# Altium schematic symbol library Schlib1.SchLib: 10 symbols
Pins are listed as number, name and electrical type; pins without a type are passive.

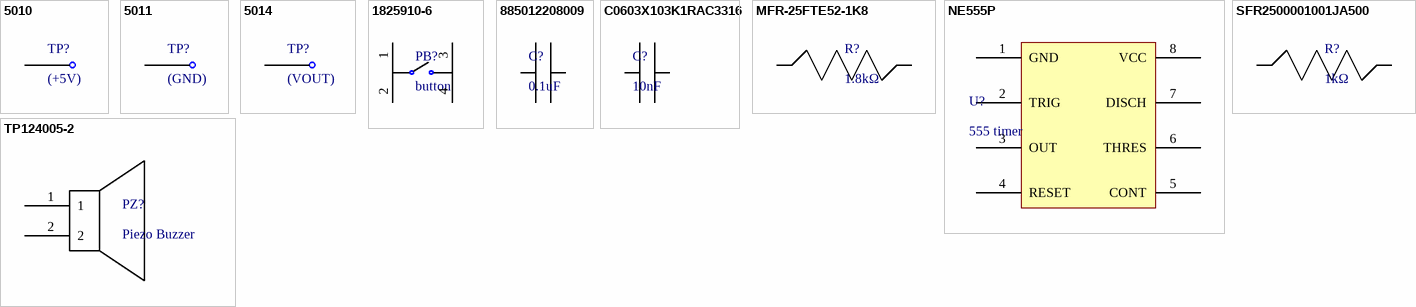
[diagram p0: symbols 5010 to TP124005-2]

## 5010
designator TP?, comment (+5V)
Polyurethane Multi-Purpose Cream Adhesive, 10.3 oz Cartridge; Manufacturer: Keystone Electronics; Manufacturer Part Number: 5010; Body Material: Bronze,PBT; Plating: Silver; Number of Ports: 1; Inside Diameter: 1.78mm; Hole Diameter: 1.6mm; Supplier 1: Digi-Key; RoHS: Yes; Category: Connectors; Stock 1: 546313; Pricing 1: 1=0.42000, 25=0.34080, 100=0.30150, 250=0.28304, 500=0.25230, 1000=0.19884, 2500=0.18180, 5000=0.17044 (USD); Mount: Through Hole,PCB; Contact Material: Bronze; Contact Plating: Silver,Tin; Color: Red; Material: Nylon,Bronze,Silver; Housing Color: Red; Insulation Material: Nylon; Packaging: Bulk; Series: THM; Package Quantity: 100; Termination: Through Hole; Orientation: Straight; Length: 11.3mm; Height: 0.445inch; Lead Free: Lead Free; Flammability Rating: UL94 V-0; RoHS Compliant: Yes; REACH SVHC: No SVHC; ComponentLink1URL: https://datasheet.ciiva.com/11744/0900766b8009b7c7-11744920.pdf?src-supplier=RSComponents; ComponentLink1Description: https://datasheet.ciiva.com/11744/0900766b8009b7c7-11744920.pdf?src-supplier=RSComponents; ComponentLink2URL: https://datasheet.ciiva.com/16506/m60-2p60-16506972.pdf?src-supplier=Future+Electronics; ComponentLink2Description: https://datasheet.ciiva.com/16506/m60-2p60-16506972.pdf?src-supplier=Future+Electronics; ComponentLink3URL: https://datasheet.ciiva.com/16883/70182825-16883886.pdf?src-supplier=Allied+Electronics; ComponentLink3Description: https://datasheet.ciiva.com/16883/70182825-16883886.pdf?src-supplier=Allied+Electronics; ComponentLink4URL: https://datasheet.ciiva.com/1454/1703983-1454833.pdf?src-supplier=Element14; ComponentLink4Description: https://datasheet.ciiva.com/1454/1703983-1454833.pdf?src-supplier=Element14; ComponentLink5URL: https://datasheet.ciiva.com/22631/1703983-22631113.pdf?src-supplier=Element14; ComponentLink5Description: https://datasheet.ciiva.com/22631/1703983-22631113.pdf?src-supplier=Element14; ComponentLink6URL: https://datasheet.ciiva.com/2917/5010-2917626.pdf?src-supplier=Digi-Key; ComponentLink6Description: https://datasheet.ciiva.com/2917/5010-2917626.pdf?src-supplier=Digi-Key; Supplier Part Number 1: 36-5010-ND
footprint TEST_POINT
pins: 1

## 5011
designator TP?, comment (GND)
Test Point MultiPurpose THM H .445 Nylon 46 Insulated Blk PhosBronze/Silver; Manufacturer: Keystone Electronics; Manufacturer Part Number: 5011; Body Material: PBT; Gender: Female; Number of Ports: 1; Inside Diameter: 1.78mm; Hole Diameter: 1.6mm; Supplier 1: RSComponents; RoHS: Yes; Category: Connectors; Stock 1: 100; Pricing 1: 100=0.30800, 500=0.29900, 1000=0.29100, 4000=0.28400 (GBP); Mount: PCB,Through Hole; Contact Material: Bronze; Contact Plating: Silver,Tin; Color: Black; Material: Nylon,Bronze,Silver; Housing Color: Black; Packaging: Bulk; Package Quantity: 100; Orientation: Straight; Series: THM; Length: 11.3mm; Lead Free: Lead Free; REACH SVHC: No SVHC; RoHS Compliant: Yes; Flammability Rating: UL94 V-0; ComponentLink1URL: https://datasheet.ciiva.com/11744/0900766b8009b7c7-11744935.pdf?src-supplier=RSComponents; ComponentLink1Description: https://datasheet.ciiva.com/11744/0900766b8009b7c7-11744935.pdf?src-supplier=RSComponents; ComponentLink2URL: https://datasheet.ciiva.com/1454/1718230-1454834.pdf?src-supplier=Element14; ComponentLink2Description: https://datasheet.ciiva.com/1454/1718230-1454834.pdf?src-supplier=Element14; ComponentLink3URL: https://datasheet.ciiva.com/16351/m60-2p60-16351093.pdf?src-supplier=Future+Electronics; ComponentLink3Description: https://datasheet.ciiva.com/16351/m60-2p60-16351093.pdf?src-supplier=Future+Electronics; ComponentLink4URL: https://datasheet.ciiva.com/2917/5011-2917635.pdf?src-supplier=Digi-Key; ComponentLink4Description: https://datasheet.ciiva.com/2917/5011-2917635.pdf?src-supplier=Digi-Key; ComponentLink5URL: https://datasheet.ciiva.com/46412/1703983-46412138.pdf?src-supplier=Element14; ComponentLink5Description: https://datasheet.ciiva.com/46412/1703983-46412138.pdf?src-supplier=Element14; Supplier Part Number 1: 2042652
footprint TEST_POINT
pins: 1

## 5014
designator TP?, comment (VOUT)
Test Point MultiPurpose THM H .445 Nylon 46 Insulated Yel PhosBronze/Silver; Manufacturer: Keystone Electronics; Manufacturer Part Number: 5014; Body Material: PBT; Inside Diameter: 1.78mm; Supplier 1: Newark; RoHS: Yes; Category: Connectors; Stock 1: 46110; Pricing 1: 1=0.26400, 10=0.25400, 100=0.24000, 500=0.17900, 1000=0.15400, 2500=0.13300, 10000=0.11100 (USD); Mount: Through Hole,PCB; Contact Material: Bronze; Contact Plating: Silver,Tin; Color: Yellow; Material: Nylon,Bronze,Silver; Packaging: Bulk; Termination: Through Hole; Series: THM; Package Quantity: 100; Length: 11.3mm; Height: 0.445inch; Lead Free: Lead Free; REACH SVHC: No SVHC; RoHS Compliant: Yes; Flammability Rating: UL94 V-0; ComponentLink1URL: https://datasheet.ciiva.com/2917/5014-2917636.pdf?src-supplier=Digi-Key; ComponentLink1Description: https://datasheet.ciiva.com/2917/5014-2917636.pdf?src-supplier=Digi-Key; ComponentLink2URL: https://datasheet.ciiva.com/16297/m60-2p60-16297225.pdf?src-supplier=Future+Electronics; ComponentLink2Description: https://datasheet.ciiva.com/16297/m60-2p60-16297225.pdf?src-supplier=Future+Electronics; ComponentLink3URL: https://datasheet.ciiva.com/22631/1703983-22631119.pdf?src-supplier=Element14; ComponentLink3Description: https://datasheet.ciiva.com/22631/1703983-22631119.pdf?src-supplier=Element14; ComponentLink4URL: https://datasheet.ciiva.com/16884/70182825-16884159.pdf?src-supplier=Allied+Electronics; ComponentLink4Description: https://datasheet.ciiva.com/16884/70182825-16884159.pdf?src-supplier=Allied+Electronics; Supplier Part Number 1: 62W5146
footprint TEST_POINT
pins: 1

## 1825910-6
designator PB?, comment button
Switch Tactile OFF (ON) SPST Round Button PC Pins 0.05A 24VDC 1.57N Thru-Hole Loose; Manufacturer: TE Connectivity Alcoswitch; Manufacturer Part Number: 1825910-6; Mechanical Life: 100000Cycles; Actuator Material: PBT; Actuator Color: Black; Max Current Rating: 50mA; Operating Force: 160gf; Max Voltage Rating (DC): 24V; Contact Resistance: 100mR; Illumination Type: Non-Illuminated,Illuminated; Switch Travel: 0.25mm; Switch Function: Off-Mom; Actuator Type: Standard; Actuator Length: 0.055inch; Supplier 1: Arrow Electronics; RoHS: Yes; Category: Pushbutton Switches; Stock 1: 107859; Pricing 1: 1=0.10270, 10=0.09590, 25=0.09390, 100=0.08150, 250=0.08070, 500=0.07420, 1000=0.06350, 2500=0.06120, 5000=0.05680 (USD); Mount: Through Hole; Contact Material: Copper Alloy; Contact Plating: Silver; Min Operating Temperature: -35°C; Max Operating Temperature: 85°C; Package Quantity: 750; Packaging: Loose Piece; Throw Configuration: SPST; Termination: PC Pins; Electrical Life: 100000Cycles; Orientation: Straight; Contact Current Rating: 50mA; Type: Switch; Series: FSMJ; Length: 5.99mm; RoHS Compliant: Yes; REACH SVHC: Unknown; ELV: Compliant; Lead Free: Lead Free; ComponentLink1URL: https://datasheet.ciiva.com/30199/1825910-6rqpn1825910-6-30199520.pdf?src-supplier=Onlinecomponents.com; ComponentLink1Description: https://datasheet.ciiva.com/30199/1825910-6rqpn1825910-6-30199520.pdf?src-supplier=Onlinecomponents.com; ComponentLink2URL: https://datasheet.ciiva.com/15184/getdatasheetpartid-395915-15184509.pdf?src-supplier=Verical; ComponentLink2Description: https://datasheet.ciiva.com/15184/getdatasheetpartid-395915-15184509.pdf?src-supplier=Verical; Supplier Part Number 1: 1825910-6
footprint button2
pins: 1, 2, 3, 4

## 885012208009
designator C?, comment 0.1uF
Cap, 0.1ΜF, 10V, 10%, X7R, 1206; Manufacturer: Wurth Electronics; Manufacturer Part Number: 885012208009; Capacitance: 100nF; Supplier 1: Digi-Key; RoHS: Yes; Category: Ceramic Capacitors; Stock 1: 5980; Pricing 1: 1=0.12000, 10=0.10600, 100=0.09500, 500=0.08300 (USD); Mount: Surface Mount; Case/Package: 1206; Case Code (Metric): 3216; Case Code (Imperial): 1206; Min Operating Temperature: -55°C; Max Operating Temperature: 125°C; Packaging: Tape and Reel; Voltage Rating: 10V; Tolerance: 10%; Length: 0.126inch; Width: 0.063inch; Thickness: 0.035inch; RoHS Compliant: Yes; ComponentLink1URL: http://www.farnell.com/datasheets/2031891.pdf?src-supplier=Farnell; ComponentLink1Description: http://www.farnell.com/datasheets/2031891.pdf?src-supplier=Farnell; ComponentLink2URL: http://katalog.we-online.de/pbs/datasheet/885012208009.pdf?src-supplier=Digi-Key; ComponentLink2Description: http://katalog.we-online.de/pbs/datasheet/885012208009.pdf?src-supplier=Digi-Key; ComponentLink3URL: https://katalog.we-online.de/pbs/datasheet/885012208009.pdf?src-supplier=Digi-Key; ComponentLink3Description: https://katalog.we-online.de/pbs/datasheet/885012208009.pdf?src-supplier=Digi-Key; Supplier Part Number 1: 732-8086-1-ND
footprint Surface Capacitor
footprint Capacitor
pins: 1, 2

## C0603X103K1RAC3316
designator C?, comment 10nF
Cap Ceramic 0.01uF 100V X7R 10% SMD 0603 125°C Paper T/R; Manufacturer: KEMET; Manufacturer Part Number: C0603X103K1RAC3316; Supplier 1: RSComponents; RoHS: Yes; Category: Ceramic Capacitors; Stock 1: 200; Pricing 1: 4000=0.07200, 16000=0.07100 (GBP); Case Code (Metric): 1608; Case Code (Imperial): 0603; Min Operating Temperature: -55°C; Max Operating Temperature: 125°C; Capacitance: 10nF; Voltage Rating: 100V; Dielectric: X7R; Packaging: Cut Tape; Tolerance: 10%; Voltage Rating (DC): 100V; REACH SVHC: No SVHC; RoHS Compliant: Yes; ComponentLink1URL: http://www.farnell.com/datasheets/2821142.pdf?src-supplier=Farnell; ComponentLink1Description: http://www.farnell.com/datasheets/2821142.pdf?src-supplier=Farnell; ComponentLink2URL: http://www.farnell.com/datasheets/2163236.pdf?src-supplier=Element14; ComponentLink2Description: http://www.farnell.com/datasheets/2163236.pdf?src-supplier=Element14; Supplier Part Number 1: 1881957
footprint Capacitor
pins: 1, 2

## MFR-25FTE52-1K8
designator R?, comment 1.8kΩ
General Type Metal Film Resistor 1.8kOhm 1/4W 1% Axial Ammo Pack; Manufacturer: Yageo; Manufacturer Part Number: MFR-25FTE52-1K8; Resistance: 1.8kR; Voltage Rating: 250V; Power Rating: 250mW; Supplier 1: RSComponents; Category: Resistors; Stock 1: 5000; Pricing 1: 5000=0.00800 (GBP); Mount: Through Hole; Case/Package: Conformal; Min Operating Temperature: -55°C; Max Operating Temperature: 155°C; Tolerance: 1%; Termination: Axial; Resistor Type: Metal Film; Construction: Cylindrical; Length: 6.3mm; Military Standard: Not; ComponentLink1URL: http://www.mouser.com/ds/2/447/Yageo%20LR_MFR_2013-467719.pdf?src-supplier=Mouser; ComponentLink1Description: http://www.mouser.com/ds/2/447/Yageo%20LR_MFR_2013-467719.pdf?src-supplier=Mouser; ComponentLink2URL: http://www.yageo.com/NewPortal/yageodocoutput?fileName=/pdf/throughhole/Yageo_LR_MFR_2013.pdf&src-supplier=Digi-Key; ComponentLink2Description: http://www.yageo.com/NewPortal/yageodocoutput?fileName=/pdf/throughhole/Yageo_LR_MFR_2013.pdf&src-supplier=Digi-Key; ComponentLink3URL: https://datasheet.octopart.com/MFR-25FTE52-1K8-Yageo-datasheet-155367622.pdf?src-supplier=Future+Electronics; ComponentLink3Description: https://datasheet.octopart.com/MFR-25FTE52-1K8-Yageo-datasheet-155367622.pdf?src-supplier=Future+Electronics; ComponentLink4URL: https://datasheet.octopart.com/MFR-25FTE52-1K8-Yageo-datasheet-28066692.pdf; ComponentLink4Description: https://datasheet.octopart.com/MFR-25FTE52-1K8-Yageo-datasheet-28066692.pdf; Supplier Part Number 1: 1997607
footprint Through hole resistor
pins: 1, 2

## NE555P
designator U?, comment 555 timer
IC OSC SINGLE TIMER 100KHZ 8-DIP; Manufacturer: Texas Instruments; Manufacturer Part Number: NE555P; Frequency: 500kHz; Min Supply Voltage: 4.5V; Max Supply Voltage: 16V; Operating Supply Voltage: 5V; Current Rating: 10mA; Nominal Supply Current: 2mA; Number of Timers/Counters: 1; Quiescent Current: 15mA; High Level Output Current: -200mA; Low Level Output Current: 200mA; Supplier 1: Digi-Key; RoHS: Yes; Category: Clock and Timing; Stock 1: 8993; Pricing 1: 1=0.48000, 10=0.41300, 25=0.38600, 100=0.30870, 250=0.28664, 500=0.24252, 1000=0.18741, 2500=0.17087, 5000=0.16640 (USD); Mount: Through Hole; Case/Package: PDIP; Number of Pins: 8; Weight: 0.015535oz; Contact Plating: Gold; Min Operating Temperature: 0°C; Max Operating Temperature: 70°C; Packaging: Rail/Tube; Package Quantity: 50; Operating Supply Current: 10mA; Length: 9.81mm; Width: 6.35mm; Height: 4.57mm; Radiation Hardening: No; REACH SVHC: No SVHC; Lead Free: Lead Free; RoHS Compliant: Yes; ComponentLink1URL: https://datasheet.ciiva.com/19457/904085-19457361.pdf?src-supplier=Jameco; ComponentLink1Description: https://datasheet.ciiva.com/19457/904085-19457361.pdf?src-supplier=Jameco; ComponentLink2URL: https://datasheet.ciiva.com/1139/sa555-1139904.pdf?src-supplier=Element14; ComponentLink2Description: https://datasheet.ciiva.com/1139/sa555-1139904.pdf?src-supplier=Element14; ComponentLink3URL: https://datasheet.ciiva.com/26325/152184-da-01-en-ne555p-timer-tid-26325915.pdf?src-supplier=Conrad; ComponentLink3Description: https://datasheet.ciiva.com/26325/152184-da-01-en-ne555p-timer-tid-26325915.pdf?src-supplier=Conrad; ComponentLink4URL: https://datasheet.ciiva.com/14094/ne555-series-eng-tds-14094950.pdf?src-supplier=Distrelec; ComponentLink4Description: https://datasheet.ciiva.com/14094/ne555-series-eng-tds-14094950.pdf?src-supplier=Distrelec; ComponentLink5URL: https://datasheet.ciiva.com/1233/ne555-1233454.pdf?src-supplier=Digi-Key; ComponentLink5Description: https://datasheet.ciiva.com/1233/ne555-1233454.pdf?src-supplier=Digi-Key; ComponentLink6URL: https://datasheet.ciiva.com/1147/1764032-1147750.pdf?src-supplier=Newark; ComponentLink6Description: https://datasheet.ciiva.com/1147/1764032-1147750.pdf?src-supplier=Newark; ComponentLink7URL: https://datasheet.ciiva.com/14274/ne555-14274456.pdf?src-supplier=Avnet; ComponentLink7Description: https://datasheet.ciiva.com/14274/ne555-14274456.pdf?src-supplier=Avnet; ComponentLink8URL: https://datasheet.ciiva.com/15152/getdatasheetpartid-248510-15152620.pdf?src-supplier=Verical; ComponentLink8Description: https://datasheet.ciiva.com/15152/getdatasheetpartid-248510-15152620.pdf?src-supplier=Verical; Supplier Part Number 1: 296-NE555P-ND
footprint DIP8
pins: 1 GND, 2 TRIG, 3 OUT, 4 RESET, 5 CONT, 6 THRES, 7 DISCH, 8 VCC

## SFR2500001001JA500
designator R?, comment 1kΩ
Res Metal Film 1K Ohm 5% 2/5W ±100ppm/°C Conformal AXL Thru-Hole Ammo Pack; Manufacturer: Vishay BCcomponents; Manufacturer Part Number: SFR2500001001JA500; Resistance: 1kR; Power Rating: 400mW; Voltage Rating: 250V; Lead Diameter: 0.58mm; Lead Length: 26mm; Supplier 1: Arrow Electronics; RoHS: Yes; Category: Through-Hole Resistors; Stock 1: 1000; Pricing 1: 1=0.17130, 10=0.13160, 25=0.10310, 100=0.04400, 250=0.03870, 500=0.03240, 1000=0.02600 (USD); Case/Package: Conformal; Contact Plating: Tin; Min Operating Temperature: -55°C; Max Operating Temperature: 155°C; Tolerance: 5%; Resistor Type: Metal Film; Packaging: Tape and Reel; Number of Terminations: 2; Termination: Axial; Max Power Dissipation: 400mW; Temperature Coefficient: 100ppm/°C; Series: SFR25; Resistance Tolerance: 5%; Construction: Cylindrical; Diameter: 2.5mm; Length: 7.5mm; Radiation Hardening: No; REACH SVHC: Unknown; Military Standard: Not; RoHS Compliant: Yes; ComponentLink1URL: https://datasheet.ciiva.com/8323/sfr16s25-8323400.pdf?src-supplier=Avnet; ComponentLink1Description: https://datasheet.ciiva.com/8323/sfr16s25-8323400.pdf?src-supplier=Avnet; Supplier Part Number 1: SFR2500001001JA500
footprint Through hole resistor
pins: 1, 2

## TP124005-2
designator PZ?, comment Piezo Buzzer
High Temp Piezo Transducer; Resonant Frequency: 4000Hz; Rated Voltage: 5V; SPL @ 10cm: 75dBA; Manufacturer: DB Unlimited; Manufacturer Part Number: TP124005-2; Supplier 1: Digi-Key; RoHS: No; Category: Audio Products; Stock 1: 2115; Pricing 1: 1=0.78000, 10=0.64900, 25=0.60120, 50=0.56620, 100=0.53260 (USD); Supplier Part Number 1: 2104-TP124005-2CT-ND
footprint Buzzer
pins: 1, 2